# Altium footprint library PcbLib1.PcbLib: 12 footprints
Each footprint in its own frame and in the unit in brackets; x right, y up, seen from the top. Pads: shape width x height; smd on the part's side, far side on the other; paste and mask are expansions set on the pad; w line width, h text height; cw(c..) or ccw(c..) is an arc to the next point about the centre after c.
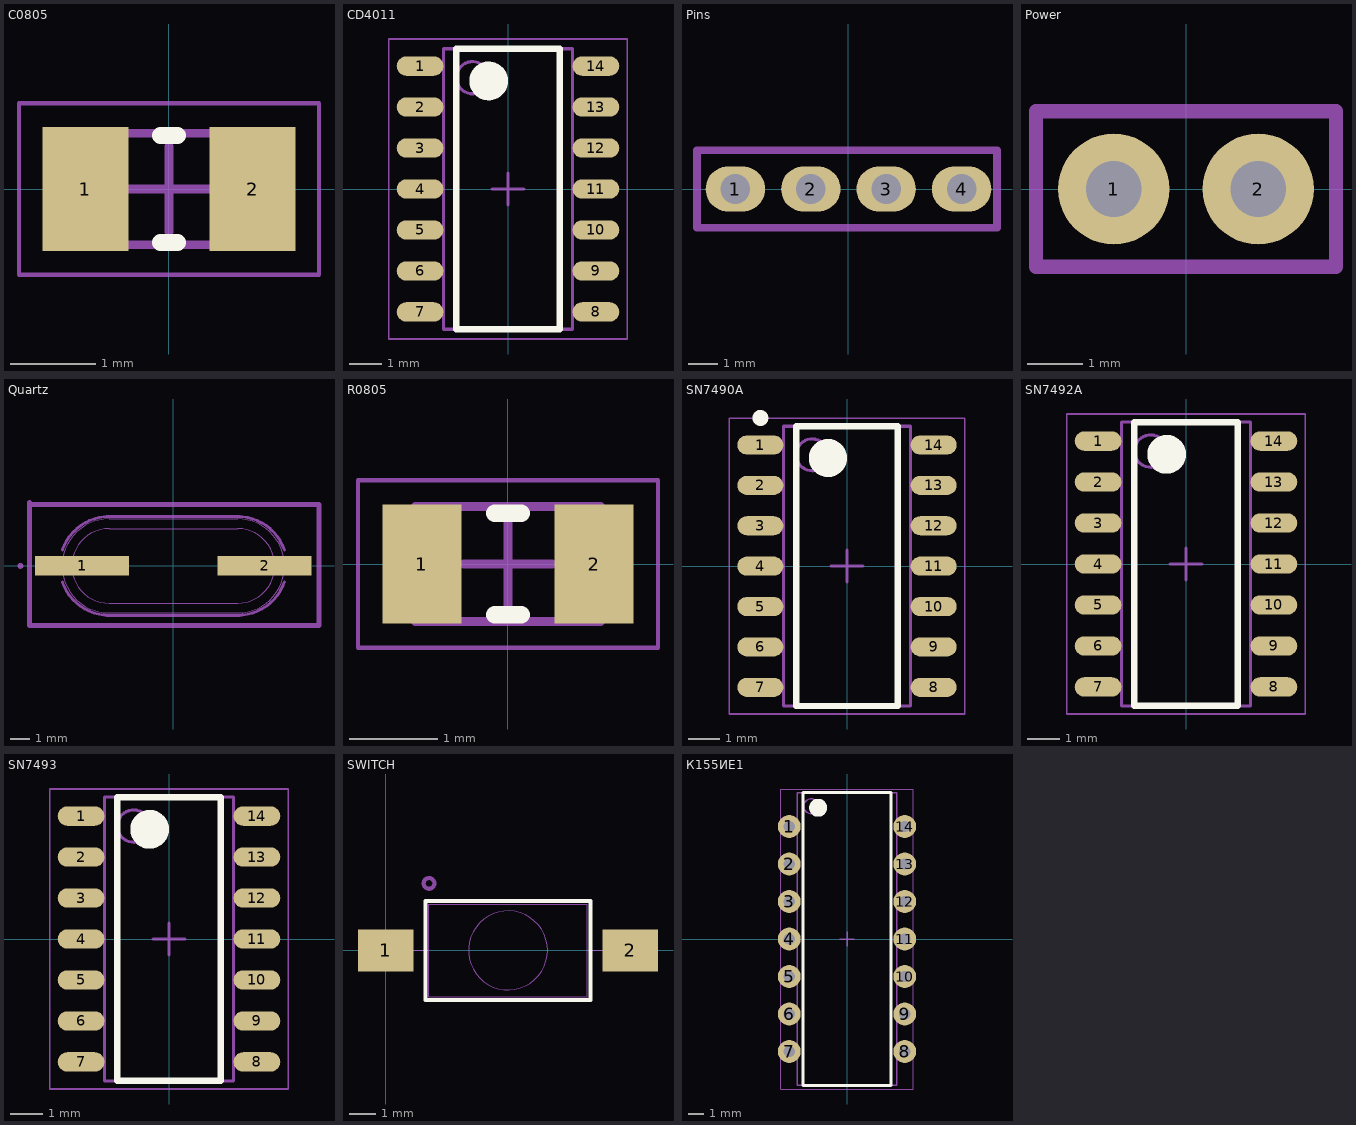
[diagram p0: the footprints below, top view; thin cyan lines are the x and y axes]

## C0805 [mm] "Chip Capacitor, 2-Leads, Body 2,10x1,30mm, IPC Medium Density"
height 0.4
pads (2):
  rect 1x1.45 smd: 1(-0.975,0) 2(0.975,0)
Top Overlay:
  lines w0.2: -0.1,-0.625 0.1,-0.625 ; -0.1,0.625 0.1,0.625
Top Assembly:
  lines w0.1: -1.05,-0.65 -1.05,0.65 1.05,0.65 1.05,-0.65 -1.05,-0.65
Mechanical 15:
  lines w0.05: -1.75,-1 -1.75,1 1.75,1 1.75,-1 -1.75,-1
  lines w0.1: -0.5,0 0.5,0 ; 0,-0.5 0,0.5
3D body "CAPC2113X04N.step": height 0.4, standoff 0, extent -1.05,-0.65 1.05,0.65

## CD4011 [mm] "SOIC, 14-Leads, Body 8,62x3,90mm, Pitch 1,27mm, IPC Medium Density"
height 1.76
pads (14):
  oval 1.45x0.6 smd: 1(-2.725,3.81) 2(-2.725,2.54) 3(-2.725,1.27) 4(-2.725,0) 5(-2.725,-1.27) 6(-2.725,-2.54) 7(-2.725,-3.81) 8(2.725,-3.81) 9(2.725,-2.54) 10(2.725,-1.27) 11(2.725,0) 12(2.725,1.27) 13(2.725,2.54) 14(2.725,3.81)
Top Overlay:
  circle w0.6: c-0.6,3.35 r0.3
  lines w0.2: -1.6,-4.35 1.6,-4.35 1.6,4.35 -1.6,4.35 -1.6,-4.35
Top Assembly:
  circle w0.1: c-1.1,3.45 r0.5
  lines w0.1: -2,-4.35 2,-4.35 2,4.35 -2,4.35 -2,-4.35
Mechanical 15:
  lines w0.05: -3.7,-4.65 3.7,-4.65 3.7,4.65 -3.7,4.65 -3.7,-4.65
  lines w0.1: -0.5,0 0.5,0 ; 0,-0.5 0,0.5
3D body "SOIC127P600X175-14N.step": height 1.75, standoff 0, extent -2.997,-4.35 2.997,4.35

## PCBComponent_1 [mm]

## Pins [mm]
pads (4):
  oval 2x1.524 hole 1: 1(-3.81,0) 2(-1.27,0) 3(1.27,0) 4(3.81,0)
Top Assembly:
  lines w0.254: -5.1,-1.3 -5.1,1.3 5,1.3 5,-1.3 -5.1,-1.3
3D body "4-Pin.step": height 8.89, standoff -3.05, extent -5.08,-1.27 5.08,1.27

## Power [mm]
pads (2):
  round 2 hole 1: 1(-1.3,0) 2(1.3,0)
Top Assembly:
  lines w0.254: -2.7,-1.4 -2.7,-0.425 -2.7,0.525 -2.7,1.4 2.7,1.4 2.7,0.225 2.7,-0.125 2.7,-1.4 -2.7,-1.4

## Quartz [mm]
pads (2):
  rect 4.896x1.01 smd paste+0 mask+0: 1(-4.758,0) 2(4.758,0)
Top Assembly:
  circle w0.152: c-7.976,0 r0.076
  circle w0: c-6.579,0 r0.076
  lines w0: -3.353,-2.451 cw(c-3.353,0) -3.353,2.451 ; -3.353,-1.943 cw(c-3.353,0) -3.353,1.943 ; 3.353,-2.451 ccw(c3.353,0) 3.353,2.451 ; 3.353,-1.943 ccw(c3.353,0) 3.353,1.943
  lines w0.025: -3.353,-2.451 3.353,-2.451 ; -3.353,-1.943 3.353,-1.943 ; -3.353,1.943 3.353,1.943 ; -3.353,2.451 3.353,2.451
  lines w0.152: -5.791,-0.838 ccw(c-3.353,0) -3.353,-2.578 ; -5.791,0.838 cw(c-3.353,0) -3.353,2.578 ; -3.48,-2.578 3.48,-2.578 ; -3.48,2.578 3.48,2.578 ; 3.353,-2.578 ccw(c3.353,0) 5.791,-0.838 ; 3.353,2.578 cw(c3.353,0) 5.791,0.838
Mechanical 15:
  lines w0.254: -7.5,3.2 -4.4,3.2 7.6,3.2 7.6,-3.1 -7.5,-3.1 -7.5,-1.5 -7.5,1.7 -7.5,3.3
3D body "XTAL_010043_WRE.step": height 4.34, standoff 0, extent -6.706,-2.451 6.706,2.451

## R0805 [mm] "Chip Resistor, 2-Leads, Body 2,10x1,30mm, IPC Medium Density"
height 0.4
pads (2):
  rect 0.9x1.35 smd: 1(-0.975,0) 2(0.975,0)
Top Overlay:
  lines w0.2: -0.15,-0.575 0.15,-0.575 ; -0.15,0.575 0.15,0.575
Top Assembly:
  lines w0.1: -1.05,-0.65 -1.05,0.65 1.05,0.65 1.05,-0.65 -1.05,-0.65
Mechanical 15:
  lines w0.05: -1.7,-0.95 -1.7,0.95 1.7,0.95 1.7,-0.95 -1.7,-0.95
  lines w0.1: -0.5,0 0.5,0 ; 0,-0.5 0,0.5
3D body "RESC2113X04N.step": height 0.4, standoff 0, extent -1.05,-0.65 1.05,0.65

## SN7490A [mm] "SOIC, 14-Leads, Body 8,65x3,90mm, Pitch 1,27mm, IPC Medium Density"
height 1.75
pads (14):
  oval 1.45x0.6 smd: 1(-2.725,3.81) 2(-2.725,2.54) 3(-2.725,1.27) 4(-2.725,0) 5(-2.725,-1.27) 6(-2.725,-2.54) 7(-2.725,-3.81) 8(2.725,-3.81) 9(2.725,-2.54) 10(2.725,-1.27) 11(2.725,0) 12(2.725,1.27) 13(2.725,2.54) 14(2.725,3.81)
Top Overlay:
  circle w0.6: c-0.6,3.4 r0.3
  circle w0.25: c-2.725,4.66 r0.125
  lines w0.2: -1.6,-4.4 1.6,-4.4 1.6,4.4 -1.6,4.4 -1.6,-4.4
Top Assembly:
  circle w0.1: c-1.1,3.5 r0.5
  lines w0.1: -2,-4.4 2,-4.4 2,4.4 -2,4.4 -2,-4.4
Mechanical 15:
  lines w0.05: -3.7,-4.65 3.7,-4.65 3.7,4.65 -3.7,4.65 -3.7,-4.65
  lines w0.1: -0.5,0 0.5,0 ; 0,-0.5 0,0.5
3D body "SOIC127P600X175-14N.step": height 1.75, standoff 0, extent -3,-4.4 3,4.4

## SN7492A [mm] "SOIC, 14-Leads, Body 8,65x3,90mm, Pitch 1,27mm, IPC Medium Density"
height 1.75
pads (14):
  oval 1.45x0.6 smd: 1(-2.725,3.81) 2(-2.725,2.54) 3(-2.725,1.27) 4(-2.725,0) 5(-2.725,-1.27) 6(-2.725,-2.54) 7(-2.725,-3.81) 8(2.725,-3.81) 9(2.725,-2.54) 10(2.725,-1.27) 11(2.725,0) 12(2.725,1.27) 13(2.725,2.54) 14(2.725,3.81)
Top Overlay:
  circle w0.6: c-0.6,3.4 r0.3
  lines w0.2: -1.6,-4.4 -1.6,4.4 1.6,4.4 1.6,-4.4 -1.6,-4.4
Top Assembly:
  circle w0.1: c-1.1,3.5 r0.5
  lines w0.1: -2,-4.4 -2,4.4 2,4.4 2,-4.4 -2,-4.4
Mechanical 15:
  lines w0.05: -3.7,-4.65 -3.7,4.65 3.7,4.65 3.7,-4.65 -3.7,-4.65
  lines w0.1: -0.5,0 0.5,0 ; 0,-0.5 0,0.5
3D body "SOIC127P600X175-14N.step": height 1.75, standoff 0, extent -3,-4.4 3,4.4

## SN7493 [mm] "SOIC, 14-Leads, Body 8,65x3,90mm, Pitch 1,27mm, IPC Medium Density"
height 1.75
pads (14):
  oval 1.45x0.6 smd: 1(-2.725,3.81) 2(-2.725,2.54) 3(-2.725,1.27) 4(-2.725,0) 5(-2.725,-1.27) 6(-2.725,-2.54) 7(-2.725,-3.81) 8(2.725,-3.81) 9(2.725,-2.54) 10(2.725,-1.27) 11(2.725,0) 12(2.725,1.27) 13(2.725,2.54) 14(2.725,3.81)
Top Overlay:
  circle w0.6: c-0.6,3.4 r0.3
  lines w0.2: -1.6,-4.4 1.6,-4.4 1.6,4.4 -1.6,4.4 -1.6,-4.4
Top Assembly:
  circle w0.1: c-1.1,3.5 r0.5
  lines w0.1: -2,-4.4 2,-4.4 2,4.4 -2,4.4 -2,-4.4
Mechanical 15:
  lines w0.05: -3.7,-4.65 3.7,-4.65 3.7,4.65 -3.7,4.65 -3.7,-4.65
  lines w0.1: -0.5,0 0.5,0 ; 0,-0.5 0,0.5
3D body "SOIC127P600X175-14N.step": height 1.75, standoff 0, extent -3,-4.4 3,4.4

## SWITCH [mil]
pads (2):
  rect 83x63 smd paste+0 mask+0: 1(0,0) 2(365,0)
Top Overlay:
  lines w6: 59.5,-74 59.5,74 305.5,74 305.5,-74 59.5,-74
Mechanical 13:
  circle w0: c182.5,0 r59
  circle w6: c64.5,100 r8
  lines w1: 0,0 64.5,0 0,0 ; 64.5,-69 64.5,69 300.5,69 300.5,-69 64.5,-69 ; 300.5,0 365,0 300.5,0
3D body: height 10, standoff 0, extent 0,0 10,10
3D body "c-1437566-3-c-3d.stp": height 173.23, standoff -0.59, extent -11.24,-70 381.24,67.79

## К155ИЕ1 [mil] "SOP, 14-Leads, Body 19,50x6,60mm, Pitch 2,50mm, IPC Medium Density"
height 157.48
pads (14):
  round 60 hole 30: 1(-151.57,295.28) 2(-151.57,196.85) 3(-151.57,98.43) 4(-151.57,0) 5(-151.57,-98.43) 6(-151.57,-196.85) 7(-151.57,-295.28) 8(151.57,-295.28) 9(151.57,-196.85) 10(151.57,-98.43) 11(151.57,0) 12(151.57,98.43) 13(151.57,196.85) 14(151.57,295.28)
Top Overlay:
  circle w23.62: c-75.79,344.49 r11.81
  lines w7.87: -115.16,-383.86 115.16,-383.86 115.16,383.86 -115.16,383.86 -115.16,-383.86
Top Assembly:
  circle w3.94: c-94.49,348.43 r19.68
  lines w3.94: -129.92,-383.86 129.92,-383.86 129.92,383.86 -129.92,383.86 -129.92,-383.86
Mechanical 15:
  lines w1.97: -174.21,-393.7 174.21,-393.7 174.21,393.7 -174.21,393.7 -174.21,-393.7
  lines w3.94: -19.68,0 19.68,0 ; 0,-19.68 0,19.68
3D body "SOP250P750X400-14N.step": height 139.76, standoff -17.72, extent -155.5,-383.85 155.52,383.87